# Altium footprint library node_connection.PcbLib: 1 footprints
Each footprint in its own frame and in the unit in brackets; x right, y up, seen from the top. Pads: shape width x height; smd on the part's side, far side on the other; paste and mask are expansions set on the pad; w line width, h text height; cw(c..) or ccw(c..) is an arc to the next point about the centre after c.
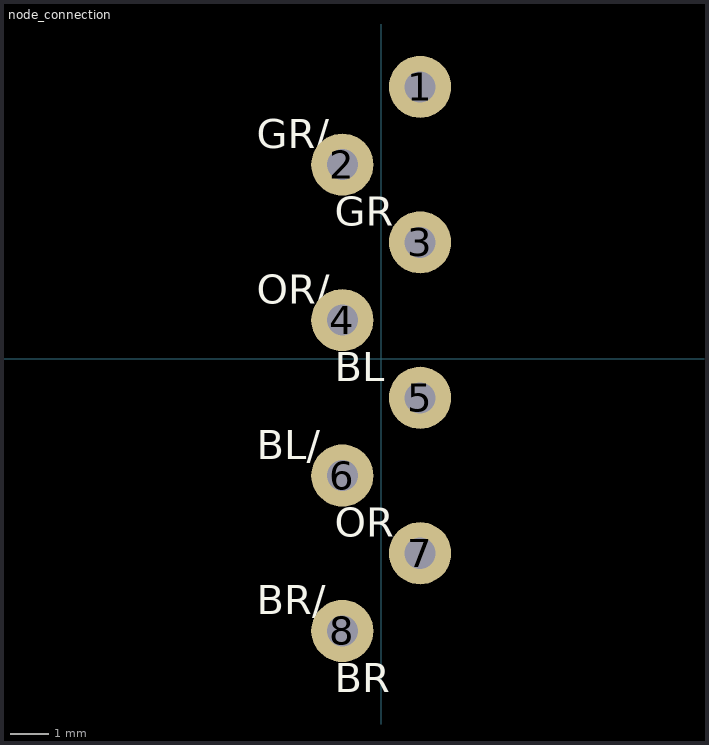
[diagram p0: the footprint, top view; thin cyan lines are the x and y axes]

## node_connection [mm]
pads (8):
  round 1.6 hole 0.8 unplated: 1(1,7) 2(-1,5) 3(1,3) 4(-1,1) 5(1,-1) 6(-1,-3) 7(1,-5) 8(-1,-7)
Top Overlay:
  text "BR" at -1.2,-8.575 h0.75
  text "BR/" at -3.2,-6.575 h0.75
  text "OR" at -1.2,-4.575 h0.75
  text "BL/" at -3.2,-2.575 h0.75
  text "BL" at -1.2,-0.575 h0.75
  text "OR/" at -3.2,1.425 h0.75
  text "GR" at -1.2,3.425 h0.75
  text "GR/" at -3.2,5.425 h0.75